# Altium schematic symbol library NX2012SA-32P768K-STD-MUB-1.SchLib: 1 symbol
Pins are listed as number, name and electrical type; pins without a type are passive.

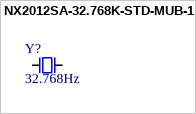
[diagram p0: symbol NX2012SA-32.768K-STD-MUB-1]

## NX2012SA-32.768K-STD-MUB-1
designator Y?, comment 32.768Hz
No Description Available; Mfr_Name: NDK
footprint XTAL_NX2012SA_NDK
pins: 1 Osc1, 2 Osc2